# EAGLE library part ESDA6V8AV6 (library SamacSys_Parts)
ESDA6V8AV6 Low Junction Capacitance Transient Voltage Suppressors for ESD Protection Source: Datasheet <http://www.chinesechip.com/files/2015-06/c6e5fabb-2b46-4fb6-8cff-c88a4d044cb1.pdf>
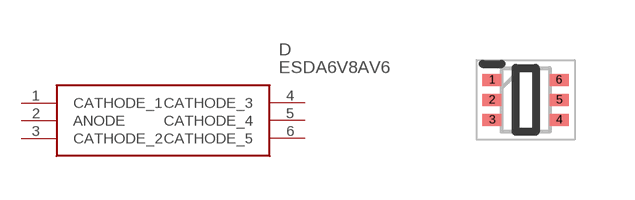
[diagram p0: symbol with the pads of SOTFL50P160X60-6N; footprint SOTFL50P160X60-6N]

Designator prefix D

## ESDA6V8AV6 (DESCRIPTION: ESDA6V8AV6 Low Junction Capacitance Transient Voltage Suppressors for ESD Protection; HEIGHT: 0.6mm; MANUFACTURER_NAME: Will Semiconductor; MANUFACTURER_PART_NUMBER: ESDA6V8AV6)  [SOTFL50P160X60-6N]
1  CATHODE_1
2  ANODE
3  CATHODE_2
4  CATHODE_3
5  CATHODE_4
6  CATHODE_5

## Footprint SOTFL50P160X60-6N (pad centres in mm)
SOT563
smd 0.475 x 0.3: 1 -0.838,0.5; 2 -0.838,0; 3 -0.838,-0.5; 4 0.838,-0.5; 5 0.838,0; 6 0.838,0.5